# Altium schematic symbol library Ceramic Capacitors 0201 6.3V.SchLib: 1 symbol
Pins are listed as number, name and electrical type; pins without a type are passive.

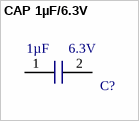
[diagram p0: symbol CAP 1µF/6.3V]

## CAP 1µF/6.3V
designator C?  Voltage: 6.3V  Capacitance: 1µF  (hidden comment: CAP 1µF/6.3V)
1µF ±20% 6.3V Ceramic Capacitor X5R 0201 (0603 Metric); Manufacturer 1: Murata Electronics North America; Manufacturer 1 PN: GRM033R60J105MEA2D; Digikey PN: 490-7229-1-ND; Mouser PN: 81-GRM033R60J105ME2D; ComponentLink1Description: Datasheet; ComponentLink1URL: https://www.murata.com/~/media/webrenewal/support/library/catalog/products/capacitor/mlcc/c02e.ashx?la=en-us
footprint CAP 1uF/6.3V (1µF ±20% 6.3V Ceramic Capacitor X5R 0201 (0603 Metric))
pins: 1, 2